# EAGLE library part TRR2A05D00 (library trr_rele)
trr trr2a trr2a05d00
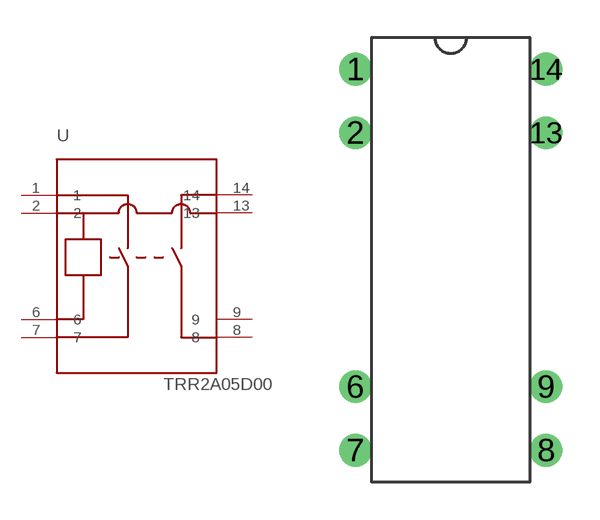
[diagram p0: symbol with the pads of TRR_DIP; footprint TRR_DIP]

Designator prefix -

## TRR2A05D00  [TRR_DIP]
1  1
2  2
6  6
7  7
8  8
9  9
13  13
14  14

## Footprint TRR_DIP (pad centres in mm)
trr dip
drill 0.8 round: 1 -0.635,16.51; 2 -0.635,13.97; 6 -0.635,3.81; 7 -0.635,1.27; 8 6.985,1.27; 9 6.985,3.81; 13 6.985,13.97; 14 6.985,16.51